# Altium footprint library MCP4728-E_UN.PcbLib: 1 footprints
Each footprint in its own frame and in the unit in brackets; x right, y up, seen from the top. Pads: shape width x height; smd on the part's side, far side on the other; paste and mask are expansions set on the pad; w line width, h text height; cw(c..) or ccw(c..) is an arc to the next point about the centre after c.
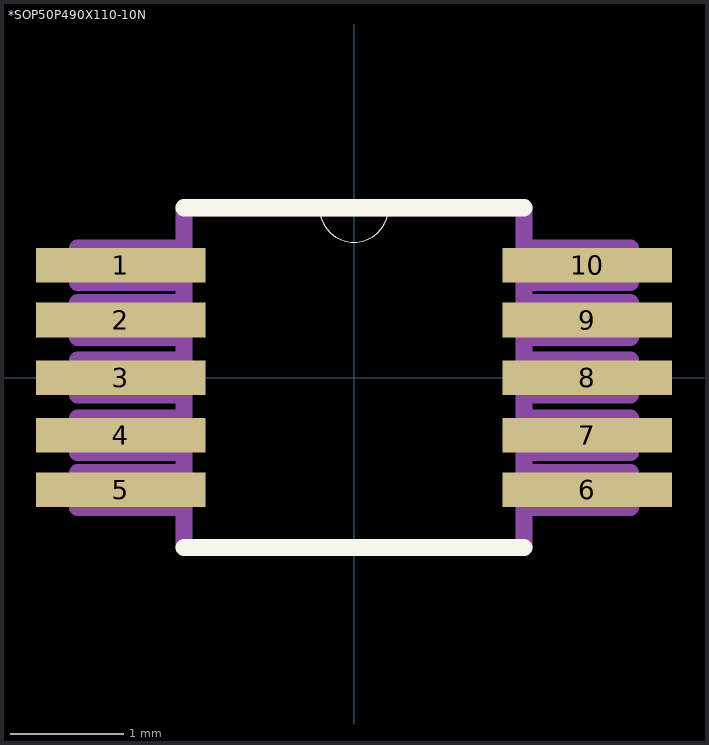
[diagram p0: the footprint, top view; thin cyan lines are the x and y axes]

## *SOP50P490X110-10N [mil]
pads (10):
  rect 59x12 smd: 1(-81,39) 2(-81,20) 3(-81,0) 4(-81,-20) 5(-81,-39) 6(81,-39) 7(81,-20) 8(81,0) 9(81,20) 10(81,39)
Top Overlay:
  lines w0: -12,59 ccw(c0,59) 12,59
  lines w6: -59,-59 59,-59 ; -59,59 -12,59 12,59 59,59
Mechanical 4:
  lines w0: -12,59 ccw(c0,59) 12,59 cw(c0,59) -12,59
  lines w6: -96,-45 -96,-33 ; -96,-45 -59,-45 ; -96,-45 -96,-33 ; -96,-45 -59,-45 ; -96,-33 -59,-33 ; -96,-33 -59,-33 ; -96,-26 -96,-14 ; -96,-26 -59,-26 ; -96,-26 -96,-14 ; -96,-26 -59,-26 ; -96,-14 -59,-14 ; -96,-14 -59,-14 ; -96,-6 -96,6 ; -96,-6 -59,-6 ; -96,-6 -96,6 ; -96,-6 -59,-6 ; -96,6 -59,6 ; -96,6 -59,6 ; -96,14 -96,26 ; -96,14 -59,14 ; -96,14 -96,26 ; -96,14 -59,14 ; -96,26 -59,26 ; -96,26 -59,26 ; -96,33 -96,45 ; -96,33 -59,33 ; -96,33 -96,45 ; -96,33 -59,33 ; -96,45 -59,45 ; -96,45 -59,45 ; -59,-59 59,-59 ; -59,-59 -59,59 ; -59,-59 59,-59 ; -59,-59 -59,59 ; -59,-45 -59,-33 ; -59,-45 -59,-33 ; -59,-26 -59,-14 ; -59,-26 -59,-14 ; -59,-6 -59,6 ; -59,-6 -59,6 ; -59,14 -59,26 ; -59,14 -59,26 ; -59,33 -59,45 ; -59,33 -59,45 ; -59,59 -12,59 ; -59,59 -12,59 ; -12,59 12,59 ; -12,59 12,59 ; 12,59 59,59 ; 12,59 59,59 ; 59,-59 59,59 ; 59,-59 59,59 ; 59,-45 59,-33 ; 59,-45 96,-45 ; 59,-45 59,-33 ; 59,-45 96,-45 ; 59,-33 96,-33 ; 59,-33 96,-33 ; 59,-26 59,-14 ; 59,-26 96,-26 ; 59,-26 59,-14 ; 59,-26 96,-26 ; 59,-14 96,-14 ; 59,-14 96,-14 ; 59,-6 59,6 ; 59,-6 96,-6 ; 59,-6 59,6 ; 59,-6 96,-6 ; 59,6 96,6 ; 59,6 96,6 ; 59,14 59,26 ; 59,14 96,14 ; 59,14 59,26 ; 59,14 96,14 ; 59,26 96,26 ; 59,26 96,26 ; 59,33 59,45 ; 59,33 96,33 ; 59,33 59,45 ; 59,33 96,33 ; 59,45 96,45 ; 59,45 96,45 ; 96,-45 96,-33 ; 96,-45 96,-33 ; 96,-26 96,-14 ; 96,-26 96,-14 ; 96,-6 96,6 ; 96,-6 96,6 ; 96,14 96,26 ; 96,14 96,26 ; 96,33 96,45 ; 96,33 96,45
3D body: height 41.34, standoff 0.08, extent -98.96,-59.06 98.97,59.06